# Altium integrated library TI Power Management Battery Management.IntLib: 949 symbols (part 46 of 62)
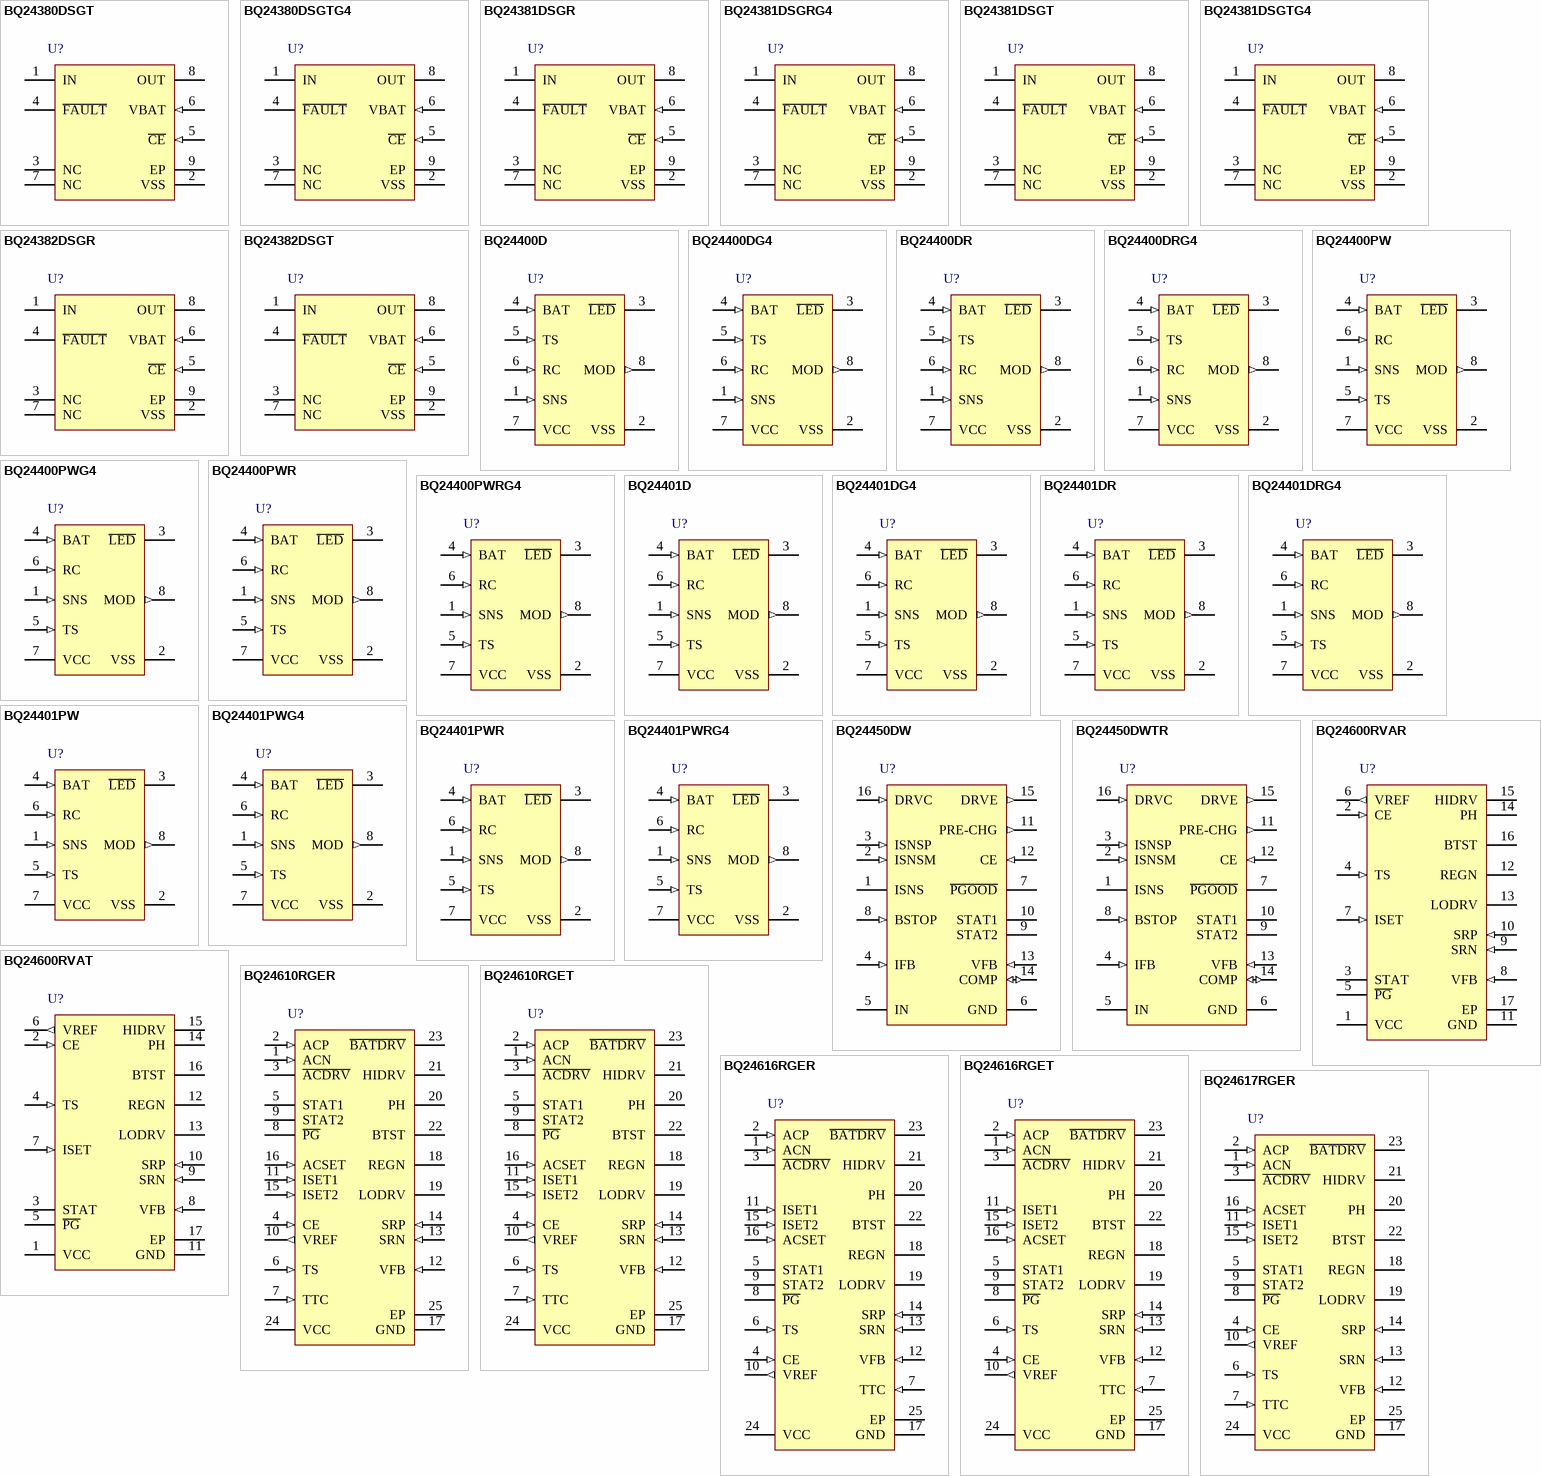
[diagram p79: symbols BQ24380DSGT to BQ24617RGER]

## BQ24400PWG4
designator U?
Switch-Mode NiCd / NiMH Battery Charger with Peak Voltage Detection Termination, 4 V, -20 to 70 degC, 8-pin TSSOP (PW), Green (RoHS & no Sb/Br); PartNumber: BQ24400PWG4; Manufacturer: Texas Instruments; Lead Acid: N; NiCd: Y; SubFamily: Battery Charge Management; Vin(Min)(V): 4; DatasheetVersion: SLUS498A; PackageVersion: revG, Feb-2011; PackageReference: PW8; PackageDescription: 8-Pin Plastic Thin Small Outline Package 3 x 4.4 mm Body ,0.65 mm Pitch; Supplier 1: Digi-Key; Supplier Part Number 1: BQ24400PWG4-ND; Supplier 2: Newark; Supplier Part Number 2: 53K9244; Supplier 3: Mouser; Supplier Part Number 3: 595-BQ24400PWG4; Eco-Plan: Green (RoHS & no Sb/Br); Li-Ion: N; Li-Polymer: N; NiMH: Y; Over Voltage Protection: N; Mounting Technology: Surface Mount; Code_JEDEC: MO-153; ComponentLink1Description: Datasheet; ComponentLink1URL: http://www.ti.com/general/docs/lit/getliterature.tsp?genericPartNumber=BQ24400&fileType=pdf
footprint PW8_N (TSOP, 8-Leads, Body 3x4.4mm, Pitch 0.65mm, IPC Medium Density)
footprint PW8_L (TSOP, 8-Leads, Body 3x4.4mm, Pitch 0.65mm, IPC High Density)
footprint PW8_M (TSOP, 8-Leads, Body 3x4.4mm, Pitch 0.65mm, IPC Low Density)
pins: 1 SNS (in) "Current-sense input", 2 VSS (power) "System ground", 3 ~{LED} (hiz) "Charge-status output", 4 BAT (in) "Battery-voltage input", 5 TS (in) "Temperature-sense input", 6 RC (in) "Timer-program input", 7 VCC (power) "Supply-voltage input", 8 MOD (out) "Modulation-control output"

## BQ24400PWR
designator U?
Switch-Mode NiCd / NiMH Battery Charger with Peak Voltage Detection Termination, 4 V, -20 to 70 degC, 8-pin TSSOP (PW), Green (RoHS & no Sb/Br); PartNumber: BQ24400PWR; Manufacturer: Texas Instruments; Lead Acid: N; NiCd: Y; SubFamily: Battery Charge Management; Vin(Min)(V): 4; DatasheetVersion: SLUS498A; PackageVersion: revG, Feb-2011; PackageReference: PW8; PackageDescription: 8-Pin Plastic Thin Small Outline Package 3 x 4.4 mm Body ,0.65 mm Pitch; Supplier 1: Digi-Key; Supplier Part Number 1: BQ24400PWR-ND; Supplier 2: Newark; Supplier Part Number 2: 74C7666; Supplier 3: Mouser; Supplier Part Number 3: 595-BQ24400PWR; Eco-Plan: Green (RoHS & no Sb/Br); Li-Ion: N; Li-Polymer: N; NiMH: Y; Over Voltage Protection: N; Mounting Technology: Surface Mount; Code_JEDEC: MO-153; ComponentLink1Description: Datasheet; ComponentLink1URL: http://www.ti.com/general/docs/lit/getliterature.tsp?genericPartNumber=BQ24400&fileType=pdf
footprint PW8_N (TSOP, 8-Leads, Body 3x4.4mm, Pitch 0.65mm, IPC Medium Density)
footprint PW8_L (TSOP, 8-Leads, Body 3x4.4mm, Pitch 0.65mm, IPC High Density)
footprint PW8_M (TSOP, 8-Leads, Body 3x4.4mm, Pitch 0.65mm, IPC Low Density)
pins: 1 SNS (in) "Current-sense input", 2 VSS (power) "System ground", 3 ~{LED} (hiz) "Charge-status output", 4 BAT (in) "Battery-voltage input", 5 TS (in) "Temperature-sense input", 6 RC (in) "Timer-program input", 7 VCC (power) "Supply-voltage input", 8 MOD (out) "Modulation-control output"

## BQ24400PWRG4
designator U?
Switch-Mode NiCd / NiMH Battery Charger with Peak Voltage Detection Termination, 4 V, -20 to 70 degC, 8-pin TSSOP (PW), Green (RoHS & no Sb/Br); PartNumber: BQ24400PWRG4; Manufacturer: Texas Instruments; Lead Acid: N; NiCd: Y; SubFamily: Battery Charge Management; Vin(Min)(V): 4; DatasheetVersion: SLUS498A; PackageVersion: revG, Feb-2011; PackageReference: PW8; PackageDescription: 8-Pin Plastic Thin Small Outline Package 3 x 4.4 mm Body ,0.65 mm Pitch; Supplier 1: Digi-Key; Supplier Part Number 1: BQ24400PWRG4-ND; Supplier 2: Newark; Supplier Part Number 2: 53K9245; Supplier 3: Mouser; Supplier Part Number 3: 595-BQ24400PWRG4; Eco-Plan: Green (RoHS & no Sb/Br); Li-Ion: N; Li-Polymer: N; NiMH: Y; Over Voltage Protection: N; Mounting Technology: Surface Mount; Code_JEDEC: MO-153; ComponentLink1Description: Datasheet; ComponentLink1URL: http://www.ti.com/general/docs/lit/getliterature.tsp?genericPartNumber=BQ24400&fileType=pdf
footprint PW8_N (TSOP, 8-Leads, Body 3x4.4mm, Pitch 0.65mm, IPC Medium Density)
footprint PW8_L (TSOP, 8-Leads, Body 3x4.4mm, Pitch 0.65mm, IPC High Density)
footprint PW8_M (TSOP, 8-Leads, Body 3x4.4mm, Pitch 0.65mm, IPC Low Density)
pins: 1 SNS (in) "Current-sense input", 2 VSS (power) "System ground", 3 ~{LED} (hiz) "Charge-status output", 4 BAT (in) "Battery-voltage input", 5 TS (in) "Temperature-sense input", 6 RC (in) "Timer-program input", 7 VCC (power) "Supply-voltage input", 8 MOD (out) "Modulation-control output"

## BQ24401D
designator U?
Switch-Mode NiCd / NiMH Battery Charger with dT / dt Termination, 4 V, -20 to 70 degC, 8-pin SOIC (D), Green (RoHS & no Sb/Br); PartNumber: BQ24401D; Manufacturer: Texas Instruments; Lead Acid: N; NiCd: Y; SubFamily: Battery Charge Management; Vin(Min)(V): 4; DatasheetVersion: SLUS497A; PackageVersion: revM, Jun-2011; PackageReference: D8; PackageDescription: 8-Pin Plastic Small Outline Integrated Circuit, 4.9 x 3.9 mm, Pitch 1.27 mm Pitch; Supplier 1: Digi-Key; Supplier Part Number 1: 296-12624-5-ND; Supplier 2: Newark; Supplier Part Number 2: 74C7667; Supplier 3: Mouser; Supplier Part Number 3: 595-BQ24401D; Eco-Plan: Green (RoHS & no Sb/Br); Li-Ion: N; Li-Polymer: N; NiMH: Y; Over Voltage Protection: N; Mounting Technology: Surface Mount; Code_JEDEC: MS-012AA; ComponentLink1Description: Datasheet; ComponentLink1URL: http://www.ti.com/general/docs/lit/getliterature.tsp?genericPartNumber=BQ24401&fileType=pdf
footprint D8_N (SOIC, 8-Leads, Body 4.9x3.9mm, Pitch 1.27mm, IPC Medium Density)
footprint D8_L (SOIC, 8-Leads, Body 4.9x3.9mm, Pitch 1.27mm, IPC High Density)
footprint D8_M (SOIC, 8-Leads, Body 4.9x3.9mm, Pitch 1.27mm, IPC Low Density)
pins: 1 SNS (in) "Current-sense input", 2 VSS (power) "System ground", 3 ~{LED} (hiz) "Charge-status output", 4 BAT (in) "Battery-voltage input", 5 TS (in) "Temperature-sense input", 6 RC (in) "Timer-program input", 7 VCC (power) "Supply-voltage input", 8 MOD (out) "Modulation-control output"

## BQ24401DG4
designator U?
Switch-Mode NiCd / NiMH Battery Charger with dT / dt Termination, 4 V, -20 to 70 degC, 8-pin SOIC (D), Green (RoHS & no Sb/Br); PartNumber: BQ24401DG4; Manufacturer: Texas Instruments; Lead Acid: N; NiCd: Y; SubFamily: Battery Charge Management; Vin(Min)(V): 4; DatasheetVersion: SLUS497A; PackageVersion: revM, Jun-2011; PackageReference: D8; PackageDescription: 8-Pin Plastic Small Outline Integrated Circuit, 4.9 x 3.9 mm, Pitch 1.27 mm Pitch; Supplier 1: Digi-Key; Supplier Part Number 1: BQ24401DG4-ND; Supplier 2: Newark; Supplier Part Number 2: 59M9839; Supplier 3: Mouser; Supplier Part Number 3: 595-BQ24401DG4; Eco-Plan: Green (RoHS & no Sb/Br); Li-Ion: N; Li-Polymer: N; NiMH: Y; Over Voltage Protection: N; Mounting Technology: Surface Mount; Code_JEDEC: MS-012AA; ComponentLink1Description: Datasheet; ComponentLink1URL: http://www.ti.com/general/docs/lit/getliterature.tsp?genericPartNumber=BQ24401&fileType=pdf
footprint D8_N (SOIC, 8-Leads, Body 4.9x3.9mm, Pitch 1.27mm, IPC Medium Density)
footprint D8_L (SOIC, 8-Leads, Body 4.9x3.9mm, Pitch 1.27mm, IPC High Density)
footprint D8_M (SOIC, 8-Leads, Body 4.9x3.9mm, Pitch 1.27mm, IPC Low Density)
pins: 1 SNS (in) "Current-sense input", 2 VSS (power) "System ground", 3 ~{LED} (hiz) "Charge-status output", 4 BAT (in) "Battery-voltage input", 5 TS (in) "Temperature-sense input", 6 RC (in) "Timer-program input", 7 VCC (power) "Supply-voltage input", 8 MOD (out) "Modulation-control output"

## BQ24401DR
designator U?
Switch-Mode NiCd / NiMH Battery Charger with dT / dt Termination, 4 V, -20 to 70 degC, 8-pin SOIC (D), Green (RoHS & no Sb/Br); PartNumber: BQ24401DR; Manufacturer: Texas Instruments; Lead Acid: N; NiCd: Y; SubFamily: Battery Charge Management; Vin(Min)(V): 4; DatasheetVersion: SLUS497A; PackageVersion: revM, Jun-2011; PackageReference: D8; PackageDescription: 8-Pin Plastic Small Outline Integrated Circuit, 4.9 x 3.9 mm, Pitch 1.27 mm Pitch; Supplier 1: Digi-Key; Supplier Part Number 1: BQ24401DR-ND; Supplier 2: Newark; Supplier Part Number 2: 74C7668; Supplier 3: Mouser; Supplier Part Number 3: 595-BQ24401DR; Eco-Plan: Green (RoHS & no Sb/Br); Li-Ion: N; Li-Polymer: N; NiMH: Y; Over Voltage Protection: N; Mounting Technology: Surface Mount; Code_JEDEC: MS-012AA; ComponentLink1Description: Datasheet; ComponentLink1URL: http://www.ti.com/general/docs/lit/getliterature.tsp?genericPartNumber=BQ24401&fileType=pdf
footprint D8_N (SOIC, 8-Leads, Body 4.9x3.9mm, Pitch 1.27mm, IPC Medium Density)
footprint D8_L (SOIC, 8-Leads, Body 4.9x3.9mm, Pitch 1.27mm, IPC High Density)
footprint D8_M (SOIC, 8-Leads, Body 4.9x3.9mm, Pitch 1.27mm, IPC Low Density)
pins: 1 SNS (in) "Current-sense input", 2 VSS (power) "System ground", 3 ~{LED} (hiz) "Charge-status output", 4 BAT (in) "Battery-voltage input", 5 TS (in) "Temperature-sense input", 6 RC (in) "Timer-program input", 7 VCC (power) "Supply-voltage input", 8 MOD (out) "Modulation-control output"

## BQ24401DRG4
designator U?
Switch-Mode NiCd / NiMH Battery Charger with dT / dt Termination, 4 V, -20 to 70 degC, 8-pin SOIC (D), Green (RoHS & no Sb/Br); PartNumber: BQ24401DRG4; Manufacturer: Texas Instruments; Lead Acid: N; NiCd: Y; SubFamily: Battery Charge Management; Vin(Min)(V): 4; DatasheetVersion: SLUS497A; PackageVersion: revM, Jun-2011; PackageReference: D8; PackageDescription: 8-Pin Plastic Small Outline Integrated Circuit, 4.9 x 3.9 mm, Pitch 1.27 mm Pitch; Supplier 1: Digi-Key; Supplier Part Number 1: BQ24401DRG4-ND; Supplier 2: Newark; Supplier Part Number 2: 03M6544; Supplier 3: Mouser; Supplier Part Number 3: 595-BQ24401DRG4; Eco-Plan: Green (RoHS & no Sb/Br); Li-Ion: N; Li-Polymer: N; NiMH: Y; Over Voltage Protection: N; Mounting Technology: Surface Mount; Code_JEDEC: MS-012AA; ComponentLink1Description: Datasheet; ComponentLink1URL: http://www.ti.com/general/docs/lit/getliterature.tsp?genericPartNumber=BQ24401&fileType=pdf
footprint D8_N (SOIC, 8-Leads, Body 4.9x3.9mm, Pitch 1.27mm, IPC Medium Density)
footprint D8_L (SOIC, 8-Leads, Body 4.9x3.9mm, Pitch 1.27mm, IPC High Density)
footprint D8_M (SOIC, 8-Leads, Body 4.9x3.9mm, Pitch 1.27mm, IPC Low Density)
pins: 1 SNS (in) "Current-sense input", 2 VSS (power) "System ground", 3 ~{LED} (hiz) "Charge-status output", 4 BAT (in) "Battery-voltage input", 5 TS (in) "Temperature-sense input", 6 RC (in) "Timer-program input", 7 VCC (power) "Supply-voltage input", 8 MOD (out) "Modulation-control output"

## BQ24401PW
designator U?
Switch-Mode NiCd / NiMH Battery Charger with dT / dt Termination, 4 V, -20 to 70 degC, 8-pin TSSOP (PW), Green (RoHS & no Sb/Br); PartNumber: BQ24401PW; Manufacturer: Texas Instruments; Lead Acid: N; NiCd: Y; SubFamily: Battery Charge Management; Vin(Min)(V): 4; DatasheetVersion: SLUS497A; PackageVersion: revG, Feb-2011; PackageReference: PW8; PackageDescription: 8-Pin Plastic Thin Small Outline Package 3 x 4.4 mm Body ,0.65 mm Pitch; Supplier 1: Digi-Key; Supplier Part Number 1: 296-12625-5-ND; Supplier 2: Newark; Supplier Part Number 2: 74C7669; Supplier 3: Mouser; Supplier Part Number 3: 595-BQ24401PW; Eco-Plan: Green (RoHS & no Sb/Br); Li-Ion: N; Li-Polymer: N; NiMH: Y; Over Voltage Protection: N; Mounting Technology: Surface Mount; Code_JEDEC: MO-153; ComponentLink1Description: Datasheet; ComponentLink1URL: http://www.ti.com/general/docs/lit/getliterature.tsp?genericPartNumber=BQ24401&fileType=pdf
footprint PW8_N (TSOP, 8-Leads, Body 3x4.4mm, Pitch 0.65mm, IPC Medium Density)
footprint PW8_L (TSOP, 8-Leads, Body 3x4.4mm, Pitch 0.65mm, IPC High Density)
footprint PW8_M (TSOP, 8-Leads, Body 3x4.4mm, Pitch 0.65mm, IPC Low Density)
pins: 1 SNS (in) "Current-sense input", 2 VSS (power) "System ground", 3 ~{LED} (hiz) "Charge-status output", 4 BAT (in) "Battery-voltage input", 5 TS (in) "Temperature-sense input", 6 RC (in) "Timer-program input", 7 VCC (power) "Supply-voltage input", 8 MOD (out) "Modulation-control output"

## BQ24401PWG4
designator U?
Switch-Mode NiCd / NiMH Battery Charger with dT / dt Termination, 4 V, -20 to 70 degC, 8-pin TSSOP (PW), Green (RoHS & no Sb/Br); PartNumber: BQ24401PWG4; Manufacturer: Texas Instruments; Lead Acid: N; NiCd: Y; SubFamily: Battery Charge Management; Vin(Min)(V): 4; DatasheetVersion: SLUS497A; PackageVersion: revG, Feb-2011; PackageReference: PW8; PackageDescription: 8-Pin Plastic Thin Small Outline Package 3 x 4.4 mm Body ,0.65 mm Pitch; Supplier 1: Digi-Key; Supplier Part Number 1: BQ24401PWG4-ND; Supplier 2: Newark; Supplier Part Number 2: 52M3031; Supplier 3: Mouser; Supplier Part Number 3: 595-BQ24401PWG4; Eco-Plan: Green (RoHS & no Sb/Br); Li-Ion: N; Li-Polymer: N; NiMH: Y; Over Voltage Protection: N; Mounting Technology: Surface Mount; Code_JEDEC: MO-153; ComponentLink1Description: Datasheet; ComponentLink1URL: http://www.ti.com/general/docs/lit/getliterature.tsp?genericPartNumber=BQ24401&fileType=pdf
footprint PW8_N (TSOP, 8-Leads, Body 3x4.4mm, Pitch 0.65mm, IPC Medium Density)
footprint PW8_L (TSOP, 8-Leads, Body 3x4.4mm, Pitch 0.65mm, IPC High Density)
footprint PW8_M (TSOP, 8-Leads, Body 3x4.4mm, Pitch 0.65mm, IPC Low Density)
pins: 1 SNS (in) "Current-sense input", 2 VSS (power) "System ground", 3 ~{LED} (hiz) "Charge-status output", 4 BAT (in) "Battery-voltage input", 5 TS (in) "Temperature-sense input", 6 RC (in) "Timer-program input", 7 VCC (power) "Supply-voltage input", 8 MOD (out) "Modulation-control output"

## BQ24401PWR
designator U?
Switch-Mode NiCd / NiMH Battery Charger with dT / dt Termination, 4 V, -20 to 70 degC, 8-pin TSSOP (PW), Green (RoHS & no Sb/Br); PartNumber: BQ24401PWR; Manufacturer: Texas Instruments; Lead Acid: N; NiCd: Y; SubFamily: Battery Charge Management; Vin(Min)(V): 4; DatasheetVersion: SLUS497A; PackageVersion: revG, Feb-2011; PackageReference: PW8; PackageDescription: 8-Pin Plastic Thin Small Outline Package 3 x 4.4 mm Body ,0.65 mm Pitch; Supplier 1: Digi-Key; Supplier Part Number 1: BQ24401PWR-ND; Supplier 2: Newark; Supplier Part Number 2: 74C7670; Supplier 3: Mouser; Supplier Part Number 3: 595-BQ24401PWR; Eco-Plan: Green (RoHS & no Sb/Br); Li-Ion: N; Li-Polymer: N; NiMH: Y; Over Voltage Protection: N; Mounting Technology: Surface Mount; Code_JEDEC: MO-153; ComponentLink1Description: Datasheet; ComponentLink1URL: http://www.ti.com/general/docs/lit/getliterature.tsp?genericPartNumber=BQ24401&fileType=pdf
footprint PW8_N (TSOP, 8-Leads, Body 3x4.4mm, Pitch 0.65mm, IPC Medium Density)
footprint PW8_L (TSOP, 8-Leads, Body 3x4.4mm, Pitch 0.65mm, IPC High Density)
footprint PW8_M (TSOP, 8-Leads, Body 3x4.4mm, Pitch 0.65mm, IPC Low Density)
pins: 1 SNS (in) "Current-sense input", 2 VSS (power) "System ground", 3 ~{LED} (hiz) "Charge-status output", 4 BAT (in) "Battery-voltage input", 5 TS (in) "Temperature-sense input", 6 RC (in) "Timer-program input", 7 VCC (power) "Supply-voltage input", 8 MOD (out) "Modulation-control output"

## BQ24401PWRG4
designator U?
Switch-Mode NiCd / NiMH Battery Charger with dT / dt Termination, 4 V, -20 to 70 degC, 8-pin TSSOP (PW), Green (RoHS & no Sb/Br); PartNumber: BQ24401PWRG4; Manufacturer: Texas Instruments; Lead Acid: N; NiCd: Y; SubFamily: Battery Charge Management; Vin(Min)(V): 4; DatasheetVersion: SLUS497A; PackageVersion: revG, Feb-2011; PackageReference: PW8; PackageDescription: 8-Pin Plastic Thin Small Outline Package 3 x 4.4 mm Body ,0.65 mm Pitch; Supplier 1: Digi-Key; Supplier Part Number 1: BQ24401PWRG4-ND; Supplier 2: Newark; Supplier Part Number 2: 67K7901; Supplier 3: Mouser; Supplier Part Number 3: 595-BQ24401PWRG4; Eco-Plan: Green (RoHS & no Sb/Br); Li-Ion: N; Li-Polymer: N; NiMH: Y; Over Voltage Protection: N; Mounting Technology: Surface Mount; Code_JEDEC: MO-153; ComponentLink1Description: Datasheet; ComponentLink1URL: http://www.ti.com/general/docs/lit/getliterature.tsp?genericPartNumber=BQ24401&fileType=pdf
footprint PW8_N (TSOP, 8-Leads, Body 3x4.4mm, Pitch 0.65mm, IPC Medium Density)
footprint PW8_L (TSOP, 8-Leads, Body 3x4.4mm, Pitch 0.65mm, IPC High Density)
footprint PW8_M (TSOP, 8-Leads, Body 3x4.4mm, Pitch 0.65mm, IPC Low Density)
pins: 1 SNS (in) "Current-sense input", 2 VSS (power) "System ground", 3 ~{LED} (hiz) "Charge-status output", 4 BAT (in) "Battery-voltage input", 5 TS (in) "Temperature-sense input", 6 RC (in) "Timer-program input", 7 VCC (power) "Supply-voltage input", 8 MOD (out) "Modulation-control output"

## BQ24450DW
designator U?
Integrated Charge Controller for Lead-Acid Batteries, 5 V, 16-pin SOIC (DW), Green (RoHS & no Sb/Br); PartNumber: BQ24450DW; Manufacturer: Texas Instruments; Lead Acid: N; SubFamily: Battery Charge Management; Vin(Min)(V): 5; DatasheetVersion: SLUS929C; PackageVersion: revG, Jan-2011; PackageReference: DW16; PackageDescription: 16-Pin Small Outline Integrated Circuit, 10.3 x 7.5 mm, Pitch 1.27 mm Pitch; Supplier 1: Digi-Key; Supplier Part Number 1: 296-32836-5-ND; Supplier 2: Farnell; Supplier Part Number 2: 1754760; Supplier 3: Newark; Supplier Part Number 3: 50R4985; Supplier 4: Mouser; Supplier Part Number 4: 595-BQ24450DW; Eco-Plan: Green (RoHS & no Sb/Br); Li-Ion: N; Li-Polymer: N; NiCd: N; NiMH: N; Over Voltage Protection: N; Mounting Technology: Surface Mount; Code_JEDEC: MS-013-AA; ComponentLink1Description: Datasheet; ComponentLink1URL: http://www.ti.com/general/docs/lit/getliterature.tsp?genericPartNumber=BQ24450&fileType=pdf
footprint DW16_N (SOIC, 16-Leads, Body 10.3x7.5mm, Pitch 1.27mm, IPC Medium Density)
footprint DW16_L (SOIC, 16-Leads, Body 10.3x7.5mm, Pitch 1.27mm, IPC High Density)
footprint DW16_M (SOIC, 16-Leads, Body 10.3x7.5mm, Pitch 1.27mm, IPC Low Density)
pins: 1 ISNS (oc) "Output of the current-sense comparator. Open-Collector.", 2 ISNSM (in) "Negative input of the current-sense comparator.", 3 ISNSP (in) "Positive input of the current-sense comparator.", 4 IFB (in) "Input for the current-regulating loop. External resistor between IN and IFB sets the charging current value.", 5 IN (power) "Supply voltage pin. Connect to external DC source.", 6 GND (power) "Ground terminal.", 7 ~{PGOOD} (oc) "Open-collector output, indicates supply status at IN pin. Active low.", 8 BSTOP (in) "Control input. Taking this pin from low to high transitions the charger from Boost Mode to Float Mode. Internally pulled up through a 10uA current source.", 9 STAT2 (hiz) "Open-collector status outputs. See table below.", 10 STAT1 (hiz) "Open-collector status outputs. See table below.", 11 PRE-CHG (out) "Can be used to trickle-charge the battery till its voltage rises to a safe value. PRE-CHG will source current as long as the control voltage on the CE pin is below VREF. If using, connect to battery pack through external (See Datasheet)", 12 CE (in) "Charge enable control. If the voltage on the CE pin is below VREF, the driver transistor will be off and the PRE-CHG pin will source current.", 13 VFB (in) "Voltage feedback pin. Connect to battery through external resistive divider.", 14 COMP (io) "Compensation terminal for voltage loop. Connect a capacitor from this pin to GND.", 15 DRVE (out) "Emitter of the internal (NPN) driver transistor.", 16 DRVC (in) "Collector of the internal (NPN) driver transistor."

## BQ24450DWTR
designator U?
Integrated Charge Controller for Lead-Acid Batteries, 5 V, 16-pin SOIC (DW), Green (RoHS & no Sb/Br); PartNumber: BQ24450DWTR; Manufacturer: Texas Instruments; Lead Acid: N; SubFamily: Battery Charge Management; Vin(Min)(V): 5; DatasheetVersion: SLUS929C; PackageVersion: revG, Jan-2011; PackageReference: DW16; PackageDescription: 16-Pin Small Outline Integrated Circuit, 10.3 x 7.5 mm, Pitch 1.27 mm Pitch; Supplier 1: Digi-Key; Supplier Part Number 1: 296-24367-2-ND; Supplier 2: Digi-Key; Supplier Part Number 2: 296-24367-1-ND; Supplier 3: Digi-Key; Supplier Part Number 3: 296-24367-6-ND; Supplier 4: Newark; Supplier Part Number 4: 12T1438; Supplier 5: Mouser; Supplier Part Number 5: 595-BQ24450DWTR; Eco-Plan: Green (RoHS & no Sb/Br); Li-Ion: N; Li-Polymer: N; NiCd: N; NiMH: N; Over Voltage Protection: N; Mounting Technology: Surface Mount; Code_JEDEC: MS-013-AA; ComponentLink1Description: Datasheet; ComponentLink1URL: http://www.ti.com/general/docs/lit/getliterature.tsp?genericPartNumber=BQ24450&fileType=pdf
footprint DW16_N (SOIC, 16-Leads, Body 10.3x7.5mm, Pitch 1.27mm, IPC Medium Density)
footprint DW16_L (SOIC, 16-Leads, Body 10.3x7.5mm, Pitch 1.27mm, IPC High Density)
footprint DW16_M (SOIC, 16-Leads, Body 10.3x7.5mm, Pitch 1.27mm, IPC Low Density)
pins: 1 ISNS (oc) "Output of the current-sense comparator. Open-Collector.", 2 ISNSM (in) "Negative input of the current-sense comparator.", 3 ISNSP (in) "Positive input of the current-sense comparator.", 4 IFB (in) "Input for the current-regulating loop. External resistor between IN and IFB sets the charging current value.", 5 IN (power) "Supply voltage pin. Connect to external DC source.", 6 GND (power) "Ground terminal.", 7 ~{PGOOD} (oc) "Open-collector output, indicates supply status at IN pin. Active low.", 8 BSTOP (in) "Control input. Taking this pin from low to high transitions the charger from Boost Mode to Float Mode. Internally pulled up through a 10uA current source.", 9 STAT2 (hiz) "Open-collector status outputs. See table below.", 10 STAT1 (hiz) "Open-collector status outputs. See table below.", 11 PRE-CHG (out) "Can be used to trickle-charge the battery till its voltage rises to a safe value. PRE-CHG will source current as long as the control voltage on the CE pin is below VREF. If using, connect to battery pack through external (See Datasheet)", 12 CE (in) "Charge enable control. If the voltage on the CE pin is below VREF, the driver transistor will be off and the PRE-CHG pin will source current.", 13 VFB (in) "Voltage feedback pin. Connect to battery through external resistive divider.", 14 COMP (io) "Compensation terminal for voltage loop. Connect a capacitor from this pin to GND.", 15 DRVE (out) "Emitter of the internal (NPN) driver transistor.", 16 DRVC (in) "Collector of the internal (NPN) driver transistor."

## BQ24600RVAR
designator U?
Standalone Synchronous Switch-Mode Charge Controller, 5 V, -40 to 85 degC, 16-pin VQFN (RVA), Green (RoHS & no Sb/Br); PartNumber: BQ24600RVAR; Manufacturer: Texas Instruments; Lead Acid: N; SubFamily: Battery Charge Management; Vin(Min)(V): 5; DatasheetVersion: SLUS891A; PackageVersion: revC, May-2011; PackageReference: RVA16-2140X2140TP; PackageDescription: 16-Pin Plastic Quad Flatpack No-Lead, 3.5 x 3.5 mm Body, 0.5 mm Pitch, Exposed Pad; Supplier 1: Digi-Key; Supplier Part Number 1: BQ24600RVAR-ND; Supplier 2: Newark; Supplier Part Number 2: 72R5025; Supplier 3: Mouser; Supplier Part Number 3: 595-BQ24600RVAR; Eco-Plan: Green (RoHS & no Sb/Br); Li-Ion: N; Li-Polymer: N; NiCd: N; NiMH: N; Over Voltage Protection: N; Mounting Technology: Surface Mount; ComponentLink1Description: Datasheet; ComponentLink1URL: http://www.ti.com/general/docs/lit/getliterature.tsp?genericPartNumber=BQ24600&fileType=pdf
footprint RVA16-2140X2140TP (QFN, 16-Leads, Body 3.5x3.5mm, Pitch 0.5mm, Thermal Pad 2.14x2.14mm, TI Recommended)
pins: 1 VCC (power) "IC power positive supply. Connect, through a 10-ohm resistor to the common-source (diode-OR) point: source of high-side P-channel MOSFET and source of reverse-blocking power P-channel MOSFET. Or connect through a 10-ohm (See Datasheet)", 2 CE (in) "Charge-enable active-HIGH logic input. HI enables charge. LO disables charge. It has an internal 1Mohm pull-down resistor.", 3 STAT (oc) "Open-drain charge status pin to indicate various charger operation (See Table 3)", 4 TS (in) "Temperature qualification voltage input for battery pack negative temperature coefficient thermistor. Program the hot and cold temperature window with a resistor divider from VREF to TS to GND.", 5 ~{PG} (oc) "Open-drain power-good status output. The transistor turns on when a valid VCC is detected. It is turned off in the sleep mode. P\G\ can be used to drive an LED or communicate with a host processor. It can be used to drive (See Datasheet)", 6 VREF (out) "3.3-V regulated voltage output. Place a 1-uF ceramic capacitor from VREF to the GND pin close to the IC. This voltage could be used for programming of voltage and current regulation and for programming the TS threshold.", 7 ISET (in) "Charge current set input. The voltage of ISET pin programs the charge current regulation, pre-charge current and termination current set-point.", 8 VFB (in) "Output voltage analog feedback adjustment. Connect the output of a resistive voltage divider from the battery terminals to this node to adjust the output battery regulation voltage.", 9 SRN (in) "Charge-current sense resistor, negative input. A 0.1-uF ceramic capacitor is placed from SRN to SRP to provide differential-mode filtering. An optional 0.1-uF ceramic capacitor is placed from SRN pin to GND for common-mode (See Datasheet)", 10 SRP (in) "Charge-current sense resistor, positive input. A 0.1-uF ceramic capacitor is placed from SRN to SRP to provide differential-mode filtering. A 0.1-uF ceramic capacitor is placed from SRP pin to GND for common-mode filtering.", 11 GND (power) "Low-current sensitive analog/digital ground. On PCB layout, connect with thermal pad underneath the IC.", 12 REGN (power) "PWM low-side driver positive 6-V supply output. Connect a 1-uF ceramic capacitor from REGN to the PGND pin, close to the IC. Use for low-side driver and high-side driver bootstrap voltage by connecting a small-signal (See Datasheet)", 13 LODRV "PWM low-side driver output. Connect to the gate of the low-side power MOSFET with a short trace.", 14 PH (power) "PWM high-side driver negative supply. Connect to the phase-switching node (junction of the low-side power MOSFET drain, high-side power MOSFET source, and output inductor).", 15 HIDRV "PWM high-side driver output. Connect to the gate of the high-side power MOSFET with a short trace.", 16 BTST (power) "PWM high-side driver negative supply. Connect the 0.1-uF bootstrap capacitor from PH to BTST, and a bootstrap Schottky diode from REGN to BTST.", 17 EP (power) "Exposed pad beneath the IC. Always solder thermal pad to the board, and have vias on the thermal pad plane star-connecting to GND and ground plane for high-current power converter. It also serves as a thermal pad to (See Datasheet)"

## BQ24600RVAT
designator U?
Standalone Synchronous Switch-Mode Charge Controller, 5 V, -40 to 85 degC, 16-pin VQFN (RVA), Green (RoHS & no Sb/Br); PartNumber: BQ24600RVAT; Manufacturer: Texas Instruments; Lead Acid: N; SubFamily: Battery Charge Management; Vin(Min)(V): 5; DatasheetVersion: SLUS891A; PackageVersion: revC, May-2011; PackageReference: RVA16-2140X2140TP; PackageDescription: 16-Pin Plastic Quad Flatpack No-Lead, 3.5 x 3.5 mm Body, 0.5 mm Pitch, Exposed Pad; Supplier 1: Digi-Key; Supplier Part Number 1: 296-27208-2-ND; Supplier 2: Digi-Key; Supplier Part Number 2: 296-27208-1-ND; Supplier 3: Digi-Key; Supplier Part Number 3: 296-27208-6-ND; Supplier 4: Newark; Supplier Part Number 4: 72R5026; Supplier 5: Mouser; Supplier Part Number 5: 595-BQ24600RVAT; Eco-Plan: Green (RoHS & no Sb/Br); Li-Ion: N; Li-Polymer: N; NiCd: N; NiMH: N; Over Voltage Protection: N; Mounting Technology: Surface Mount; ComponentLink1Description: Datasheet; ComponentLink1URL: http://www.ti.com/general/docs/lit/getliterature.tsp?genericPartNumber=BQ24600&fileType=pdf
footprint RVA16-2140X2140TP (QFN, 16-Leads, Body 3.5x3.5mm, Pitch 0.5mm, Thermal Pad 2.14x2.14mm, TI Recommended)
pins: 1 VCC (power) "IC power positive supply. Connect, through a 10-ohm resistor to the common-source (diode-OR) point: source of high-side P-channel MOSFET and source of reverse-blocking power P-channel MOSFET. Or connect through a 10-ohm (See Datasheet)", 2 CE (in) "Charge-enable active-HIGH logic input. HI enables charge. LO disables charge. It has an internal 1Mohm pull-down resistor.", 3 STAT (oc) "Open-drain charge status pin to indicate various charger operation (See Table 3)", 4 TS (in) "Temperature qualification voltage input for battery pack negative temperature coefficient thermistor. Program the hot and cold temperature window with a resistor divider from VREF to TS to GND.", 5 ~{PG} (oc) "Open-drain power-good status output. The transistor turns on when a valid VCC is detected. It is turned off in the sleep mode. P\G\ can be used to drive an LED or communicate with a host processor. It can be used to drive (See Datasheet)", 6 VREF (out) "3.3-V regulated voltage output. Place a 1-uF ceramic capacitor from VREF to the GND pin close to the IC. This voltage could be used for programming of voltage and current regulation and for programming the TS threshold.", 7 ISET (in) "Charge current set input. The voltage of ISET pin programs the charge current regulation, pre-charge current and termination current set-point.", 8 VFB (in) "Output voltage analog feedback adjustment. Connect the output of a resistive voltage divider from the battery terminals to this node to adjust the output battery regulation voltage.", 9 SRN (in) "Charge-current sense resistor, negative input. A 0.1-uF ceramic capacitor is placed from SRN to SRP to provide differential-mode filtering. An optional 0.1-uF ceramic capacitor is placed from SRN pin to GND for common-mode (See Datasheet)", 10 SRP (in) "Charge-current sense resistor, positive input. A 0.1-uF ceramic capacitor is placed from SRN to SRP to provide differential-mode filtering. A 0.1-uF ceramic capacitor is placed from SRP pin to GND for common-mode filtering.", 11 GND (power) "Low-current sensitive analog/digital ground. On PCB layout, connect with thermal pad underneath the IC.", 12 REGN (power) "PWM low-side driver positive 6-V supply output. Connect a 1-uF ceramic capacitor from REGN to the PGND pin, close to the IC. Use for low-side driver and high-side driver bootstrap voltage by connecting a small-signal (See Datasheet)", 13 LODRV "PWM low-side driver output. Connect to the gate of the low-side power MOSFET with a short trace.", 14 PH (power) "PWM high-side driver negative supply. Connect to the phase-switching node (junction of the low-side power MOSFET drain, high-side power MOSFET source, and output inductor).", 15 HIDRV "PWM high-side driver output. Connect to the gate of the high-side power MOSFET with a short trace.", 16 BTST (power) "PWM high-side driver negative supply. Connect the 0.1-uF bootstrap capacitor from PH to BTST, and a bootstrap Schottky diode from REGN to BTST.", 17 EP (power) "Exposed pad beneath the IC. Always solder thermal pad to the board, and have vias on the thermal pad plane star-connecting to GND and ground plane for high-current power converter. It also serves as a thermal pad to (See Datasheet)"

## BQ24610RGER
designator U?
Stand-Alone Synchronous Switch-Mode Li-Ion or Li-Polymer Battery Charger with 5 to 28 V VCC Input, 5 V, -40 to 85 degC, 24-pin VQFN (RGE), Green (RoHS & no Sb/Br); PartNumber: BQ24610RGER; Manufacturer: Texas Instruments; Lead Acid: N; SubFamily: Battery Charge Management; Vin(Min)(V): 5; DatasheetVersion: SLUS892A; PackageVersion: revG, Jul-2011; PackageReference: RGE24-2450X2450TP; PackageDescription: 24-Pin Plastic Quad Flatpack No-Lead, 4 x 4 mm Body, 0.5 mm Pitch; Supplier 1: Digi-Key; Supplier Part Number 1: 296-29437-2-ND; Supplier 2: Digi-Key; Supplier Part Number 2: 296-29437-1-ND; Supplier 3: Digi-Key; Supplier Part Number 3: 296-29437-6-ND; Supplier 4: Newark; Supplier Part Number 4: 63R9861; Supplier 5: Mouser; Supplier Part Number 5: 595-BQ24610RGER; Eco-Plan: Green (RoHS & no Sb/Br); Li-Ion: N; Li-Polymer: N; NiCd: N; NiMH: N; Over Voltage Protection: N; Mounting Technology: Surface Mount; Code_JEDEC: MO-220; ComponentLink1Description: Datasheet; ComponentLink1URL: http://www.ti.com/general/docs/lit/getliterature.tsp?genericPartNumber=BQ24610&fileType=pdf
footprint RGE24-2450X2450TP (QFN, 24-Leads, Body 4x4mm, Pitch 0.5mm, Thermal Pad 2.45x2.45mm, TI Recommended)
pins: 1 ACN (in) "Adapter current-sense resistor, negative input. A 0.1-uF ceramic capacitor is placed from ACN to ACP to provide differential-mode filtering. An optional 0.1-uF ceramic capacitor is placed from the ACN pin to GND for (See Datasheet)", 2 ACP (in) "Adapter current-sense resistor, positive input. A 0.1-uF ceramic capacitor is placed from ACN to ACP to provide differential-mode filtering. A 0.1-uF ceramic capacitor is placed from the ACP pin to GND for common-mode (See Datasheet)", 3 ~{ACDRV} "AC adapter to system MOSFET driver output. Connect through a 1-kohm resistor to the gate of the ACFET P-channel power MOSFET and the reverse conduction blocking P-channel power MOSFET. The internal gate drive is (See Datasheet)", 4 CE (in) "Charge-enable active-HIGH logic input. HI enables charge. LO disables charge. It has an internal 1-Mohm  pulldown resistor.", 5 STAT1 (oc) "Open-drain charge-status pin to indicate various charger operations (See Table 3)", 6 TS (in) "Temperature qualification voltage input for battery-pack negative-temperature-coefficient thermistor. Program the hot and cold temperature window with a resistor divider from VREF to TS to GND. (See Figure 19)", 7 TTC (in) "SafetyTimer and termination control. Connect a capacitor from this node to GND to set the timer. When this input is LOW, the timer and termination are disabled. When this input is HIGH, the timer is disabled but termination (See Datasheet)", 8 ~{PG} (oc) "Open-drain power-good status output. Active-LOW when IC has a valid VCC (not in UVLO or ACOV or SLEEP mode). Active-HIGH when IC has an invalid VCC. P\G\  can be used to drive an LED or communicate with a host processor", 9 STAT2 (oc) "Open-drain charge-status pin to indicate various charger operations (See Table 3)", 10 VREF (out) "3.3-V regulated voltage output. Place a 1-uF ceramic capacitor from VREF to GND pin close to the IC. This voltage could be used for programming of voltage and current regulation and for programming the TS threshold.", 11 ISET1 (in) "Fast-charge current-set input. The voltage on the ISET1 pin programs the fast-charge current-regulation set point.", 12 VFB (in) "Output-voltage analog-feedback adjustment. Connect the output of a resistive voltage divider from the battery terminals to this node to adjust the output battery-regulation voltage.", 13 SRN (in) "Charge-current sense resistor, negative input. A 0.1-uF ceramic capacitor is placed from SRN to SRP to provide differential-mode filtering. An optional 0.1-uF ceramic capacitor is placed from the SRN pin to GND for (See Datasheet)", 14 SRP (in) "Charge-current sense resistor, positive input. A 0.1-uF ceramic capacitor is placed from SRN to SRP to provide differential-mode filtering. A 0.1-uF ceramic capacitor is placed from the SRP pin to GND for common-mode (See Datasheet)", 15 ISET2 (in) "Pre-charge and termination current-set input. The voltage on the ISET2 pin programs the pre-charge current regulation set-point and termination-current trigger point.", 16 ACSET (in) "Adapter-current set input. The voltage on the ACSET pin programs the input-current regulation set-point during dynamic power management (DPM).", 17 GND (power) "Low-current sensitive analog/digital ground. On PCB layout, connect with thermal pad underneath the IC.", 18 REGN (power) "PWM low-side driver positive 6-V supply output. Connect a 1-uF ceramic capacitor from REGN to the GND pin, close to the IC. Use for low-side driver and high-side driver bootstrap voltage by connecting a small-signal Schottky (See Datasheet)", 19 LODRV "PWM low-side driver output. Connect to the gate of the low-side power MOSFET with a short trace.", 20 PH (power) "PWM high-side driver negative supply. Connect to the phase-switching node (junction of the low-side power MOSFET drain, high-side power MOSFET source, and output inductor).", 21 HIDRV "PWM high-side driver output. Connect to the gate of the high-side power MOSFET with a short trace.", 22 BTST (power) "PWM high-side driver positive supply. Connect to the phase-switching node (junction of the low-side power MOSFET drain, high-side power MOSFET source, and output inductor). Connect the 0.1-uF bootstrap capacitor from PH to (See Datasheet)", 23 ~{BATDRV} "Battery-to-system MOSFET driver output. Gate drive for the battery-to-system load BAT PMOS power FET to isolate the system from the battery to prevent current flow from the system to the battery, while allowing a (See Datasheet)", 24 VCC (power) "IC power positive supply. Connect through a 10-ohm to the common-source (diode-OR) point: source of high-side P-channel MOSFET and source of reverse-blocking power P-channel MOSFET. Place a 1-µF ceramic capacitor from VCC to (See Datasheet)", 25 EP (power) "Exposed pad beneath the IC. Always solder the thermal pad to the board, and have vias on the thermal-pad plane star-connecting to GND and to the ground plane for a high-current power converter. It also serves as a thermal (See Datasheet)"

## BQ24610RGET
designator U?
Stand-Alone Synchronous Switch-Mode Li-Ion or Li-Polymer Battery Charger with 5 to 28 V VCC Input, 5 V, -40 to 85 degC, 24-pin VQFN (RGE), Green (RoHS & no Sb/Br); PartNumber: BQ24610RGET; Manufacturer: Texas Instruments; Lead Acid: N; SubFamily: Battery Charge Management; Vin(Min)(V): 5; DatasheetVersion: SLUS892A; PackageVersion: revG, Jul-2011; PackageReference: RGE24-2450X2450TP; PackageDescription: 24-Pin Plastic Quad Flatpack No-Lead, 4 x 4 mm Body, 0.5 mm Pitch; Supplier 1: Digi-Key; Supplier Part Number 1: 296-25611-2-ND; Supplier 2: Digi-Key; Supplier Part Number 2: 296-25611-1-ND; Supplier 3: Digi-Key; Supplier Part Number 3: 296-25611-6-ND; Supplier 4: Farnell; Supplier Part Number 4: 1815718RL; Supplier 5: Farnell; Supplier Part Number 5: 1815718; Supplier 6: Newark; Supplier Part Number 6: 60R2408; Supplier 7: Mouser; Supplier Part Number 7: 595-BQ24610RGET; Eco-Plan: Green (RoHS & no Sb/Br); Li-Ion: N; Li-Polymer: N; NiCd: N; NiMH: N; Over Voltage Protection: N; Mounting Technology: Surface Mount; Code_JEDEC: MO-220; ComponentLink1Description: Datasheet; ComponentLink1URL: http://www.ti.com/general/docs/lit/getliterature.tsp?genericPartNumber=BQ24610&fileType=pdf
footprint RGE24-2450X2450TP (QFN, 24-Leads, Body 4x4mm, Pitch 0.5mm, Thermal Pad 2.45x2.45mm, TI Recommended)
pins: 1 ACN (in) "Adapter current-sense resistor, negative input. A 0.1-uF ceramic capacitor is placed from ACN to ACP to provide differential-mode filtering. An optional 0.1-uF ceramic capacitor is placed from the ACN pin to GND for (See Datasheet)", 2 ACP (in) "Adapter current-sense resistor, positive input. A 0.1-uF ceramic capacitor is placed from ACN to ACP to provide differential-mode filtering. A 0.1-uF ceramic capacitor is placed from the ACP pin to GND for common-mode (See Datasheet)", 3 ~{ACDRV} "AC adapter to system MOSFET driver output. Connect through a 1-kohm resistor to the gate of the ACFET P-channel power MOSFET and the reverse conduction blocking P-channel power MOSFET. The internal gate drive is (See Datasheet)", 4 CE (in) "Charge-enable active-HIGH logic input. HI enables charge. LO disables charge. It has an internal 1-Mohm  pulldown resistor.", 5 STAT1 (oc) "Open-drain charge-status pin to indicate various charger operations (See Table 3)", 6 TS (in) "Temperature qualification voltage input for battery-pack negative-temperature-coefficient thermistor. Program the hot and cold temperature window with a resistor divider from VREF to TS to GND. (See Figure 19)", 7 TTC (in) "SafetyTimer and termination control. Connect a capacitor from this node to GND to set the timer. When this input is LOW, the timer and termination are disabled. When this input is HIGH, the timer is disabled but termination (See Datasheet)", 8 ~{PG} (oc) "Open-drain power-good status output. Active-LOW when IC has a valid VCC (not in UVLO or ACOV or SLEEP mode). Active-HIGH when IC has an invalid VCC. P\G\  can be used to drive an LED or communicate with a host processor", 9 STAT2 (oc) "Open-drain charge-status pin to indicate various charger operations (See Table 3)", 10 VREF (out) "3.3-V regulated voltage output. Place a 1-uF ceramic capacitor from VREF to GND pin close to the IC. This voltage could be used for programming of voltage and current regulation and for programming the TS threshold.", 11 ISET1 (in) "Fast-charge current-set input. The voltage on the ISET1 pin programs the fast-charge current-regulation set point.", 12 VFB (in) "Output-voltage analog-feedback adjustment. Connect the output of a resistive voltage divider from the battery terminals to this node to adjust the output battery-regulation voltage.", 13 SRN (in) "Charge-current sense resistor, negative input. A 0.1-uF ceramic capacitor is placed from SRN to SRP to provide differential-mode filtering. An optional 0.1-uF ceramic capacitor is placed from the SRN pin to GND for (See Datasheet)", 14 SRP (in) "Charge-current sense resistor, positive input. A 0.1-uF ceramic capacitor is placed from SRN to SRP to provide differential-mode filtering. A 0.1-uF ceramic capacitor is placed from the SRP pin to GND for common-mode (See Datasheet)", 15 ISET2 (in) "Pre-charge and termination current-set input. The voltage on the ISET2 pin programs the pre-charge current regulation set-point and termination-current trigger point.", 16 ACSET (in) "Adapter-current set input. The voltage on the ACSET pin programs the input-current regulation set-point during dynamic power management (DPM).", 17 GND (power) "Low-current sensitive analog/digital ground. On PCB layout, connect with thermal pad underneath the IC.", 18 REGN (power) "PWM low-side driver positive 6-V supply output. Connect a 1-uF ceramic capacitor from REGN to the GND pin, close to the IC. Use for low-side driver and high-side driver bootstrap voltage by connecting a small-signal Schottky (See Datasheet)", 19 LODRV "PWM low-side driver output. Connect to the gate of the low-side power MOSFET with a short trace.", 20 PH (power) "PWM high-side driver negative supply. Connect to the phase-switching node (junction of the low-side power MOSFET drain, high-side power MOSFET source, and output inductor).", 21 HIDRV "PWM high-side driver output. Connect to the gate of the high-side power MOSFET with a short trace.", 22 BTST (power) "PWM high-side driver positive supply. Connect to the phase-switching node (junction of the low-side power MOSFET drain, high-side power MOSFET source, and output inductor). Connect the 0.1-uF bootstrap capacitor from PH to (See Datasheet)", 23 ~{BATDRV} "Battery-to-system MOSFET driver output. Gate drive for the battery-to-system load BAT PMOS power FET to isolate the system from the battery to prevent current flow from the system to the battery, while allowing a (See Datasheet)", 24 VCC (power) "IC power positive supply. Connect through a 10-ohm to the common-source (diode-OR) point: source of high-side P-channel MOSFET and source of reverse-blocking power P-channel MOSFET. Place a 1-µF ceramic capacitor from VCC to (See Datasheet)", 25 EP (power) "Exposed pad beneath the IC. Always solder the thermal pad to the board, and have vias on the thermal-pad plane star-connecting to GND and to the ground plane for a high-current power converter. It also serves as a thermal (See Datasheet)"

## BQ24616RGER
designator U?
JEITA Compatible Stand-Alone Synchronous Switch-Mode Li-Ion or Li-Polymer Battery Charger, 5 V, -40 to 85 degC, 24-pin VQFN (RGE), Green (RoHS & no Sb/Br); PartNumber: BQ24616RGER; Manufacturer: Texas Instruments; Lead Acid: N; SubFamily: Battery Charge Management; Vin(Min)(V): 5; DatasheetVersion: SLUSA49B; PackageVersion: revG, Jul-2011; PackageReference: RGE24-2450X2450TP; PackageDescription: 24-Pin Plastic Quad Flatpack No-Lead, 4 x 4 mm Body, 0.5 mm Pitch; Supplier 1: Digi-Key; Supplier Part Number 1: BQ24616RGER-ND; Supplier 2: Newark; Supplier Part Number 2: 79R7883; Supplier 3: Mouser; Supplier Part Number 3: 595-BQ24616RGER; Eco-Plan: Green (RoHS & no Sb/Br); Li-Ion: N; Li-Polymer: N; NiCd: N; NiMH: N; Over Voltage Protection: N; Mounting Technology: Surface Mount; Code_JEDEC: MO-220; ComponentLink1Description: Datasheet; ComponentLink1URL: http://www.ti.com/general/docs/lit/getliterature.tsp?genericPartNumber=BQ24616&fileType=pdf
footprint RGE24-2450X2450TP (QFN, 24-Leads, Body 4x4mm, Pitch 0.5mm, Thermal Pad 2.45x2.45mm, TI Recommended)
pins: 1 ACN (in) "Adapter current-sense resistor, negative input. A 0.1-uF ceramic capacitor is placed from ACN to ACP to provide differential-mode filtering. An optional 0.1-uF ceramic capacitor is placed from the ACN pin to GND for (See Datasheet)", 2 ACP (in) "Adapter current-sense resistor, positive input. A 0.1-uF ceramic capacitor is placed from ACN to ACP to provide differential-mode filtering. A 0.1-uF ceramic capacitor is placed from the ACP pin to GND for common-mode (See Datasheet)", 3 ~{ACDRV} "AC adapter to system MOSFET driver output. Connect through a 1-kohm resistor to the gate of the ACFET P-channel power MOSFET and the reverse conduction blocking P-channel power MOSFET. The internal gate drive is (See Datasheet)", 4 CE (in) "Charge-enable active-HIGH logic input. HI enables charge. Lohm disables charge. It has an internal 1-Mohm pulldown resistor.", 5 STAT1 (oc) "Open-drain charge-status pin to indicate various charger operations (See Table 3)", 6 TS (in) "Temperature qualification voltage input for battery-pack negative-temperature-coefficient thermistor. Program the hot and cold temperature window with a resistor divider from VREF to TS to GND. (See Figure 19)", 7 TTC (in) "SafetyTimer and termination control. Connect a capacitor from this node to GND to set the timer. When this input is LOW, the timer and termination are disabled. When this input is HIGH, the timer is disabled but termination (See Datasheet)", 8 ~{PG} (oc) "Open-drain power-good status output. Active-LOW when IC has a valid VCC (not in UVLO or ACOV or SLEEP mode). Active-HIGH when IC has an invalid VCC. P\G\  can be used to drive an LED or communicate with a host processor", 9 STAT2 (oc) "Open-drain charge-status pin to indicate various charger operations (See Table 3)", 10 VREF (out) "3.3-V regulated voltage output. Place a 1-uF ceramic capacitor from VREF to GND pin close to the IC. This voltage could be used for programming of voltage and current regulation and for programming the TS threshold.", 11 ISET1 (in) "Fast-charge current-set input. The voltage on the ISET1 pin programs the fast-charge current-regulation set point.", 12 VFB (in) "Output-voltage analog-feedback adjustment. Connect the output of a resistive voltage divider from the battery terminals to this node to adjust the output battery-regulation voltage.", 13 SRN (in) "Charge-current sense resistor, negative input. A 0.1-uF ceramic capacitor is placed from SRN to SRP to provide differential-mode filtering. An optional 0.1-uF ceramic capacitor is placed from the SRN pin to GND for (See Datasheet)", 14 SRP (in) "Charge-current sense resistor, positive input. A 0.1-uF ceramic capacitor is placed from SRN to SRP to provide differential-mode filtering. A 0.1-uF ceramic capacitor is placed from the SRP pin to GND for common-mode (See Datasheet)", 15 ISET2 (in) "Pre-charge and termination current-set input. The voltage on the ISET2 pin programs the pre-charge current regulation set-point and termination-current trigger point.", 16 ACSET (in) "Adapter-current set input. The voltage on the ACSET pin programs the input-current regulation set-point during dynamic power management (DPM).", 17 GND (power) "Low-current sensitive analog/digital ground. On PCB layout, connect with thermal pad underneath the IC.", 18 REGN (power) "PWM low-side driver positive 6-V supply output. Connect a 1-uF ceramic capacitor from REGN to the GND pin, close to the IC. Use for low-side driver and high-side driver bootstrap voltage by connecting a small-signal Schottky (See Datasheet)", 19 LODRV "PWM low-side driver output. Connect to the gate of the low-side power MOSFET with a short trace.", 20 PH (power) "PWM high-side driver negative supply. Connect to the phase-switching node (junction of the low-side power MOSFET drain, high-side power MOSFET source, and output inductor).", 21 HIDRV "PWM high-side driver output. Connect to the gate of the high-side power MOSFET with a short trace.", 22 BTST (power) "PWM high-side driver positive supply. Connect to the phase-switching node (junction of the low-side power MOSFET drain, high-side power MOSFET source, and output inductor). Connect the 0.1-uF bootstrap capacitor from PH to (See Datasheet)", 23 ~{BATDRV} "Battery-to-system MOSFET driver output. Gate drive for the battery-to-system load BAT PMOS power FET to isolate the system from the battery to prevent current flow from the system to the battery, while allowing a (See Datasheet)", 24 VCC (power) "IC power positive supply. Connect through a 10-kohm to the common-source (diode-OR) point: source of high-side P-channel MOSFET and source of reverse-blocking power P-channel MOSFET. Place a 1-uF ceramic capacitor from VCC (See Datasheet)", 25 EP (power) "Exposed pad beneath the IC. Always solder the thermal pad to the board, and have vias on the thermal-pad plane star-connecting to GND and to the ground plane for a high-current power converter. It also serves as a thermal (See Datasheet)"